# EAGLE library part MIC2009 (library xmaker)
Micrel Adjustable Current Limit Power Distribution Switch.
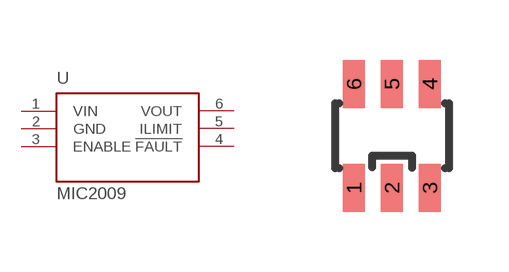
[diagram p7: symbol with the pads of SOT23-6; footprint SOT23-6]

Designator prefix U

## MIC2009  [SOT23-6]
1  VIN
2  GND
3  ENABLE
4  !FAULT
5  ILIMIT
6  VOUT

## Footprint SOT23-6 (pad centres in mm)
Small Outline Transistor
smd 0.55 x 1.2: 1 -0.95,-1.3; 2 0,-1.3; 3 0.95,-1.3; 4 0.95,1.3; 5 0,1.3; 6 -0.95,1.3